# Altium schematic symbol library AVT5805_DF.SchLib: 8 symbols
Pins are listed as number, name and electrical type; pins without a type are passive.

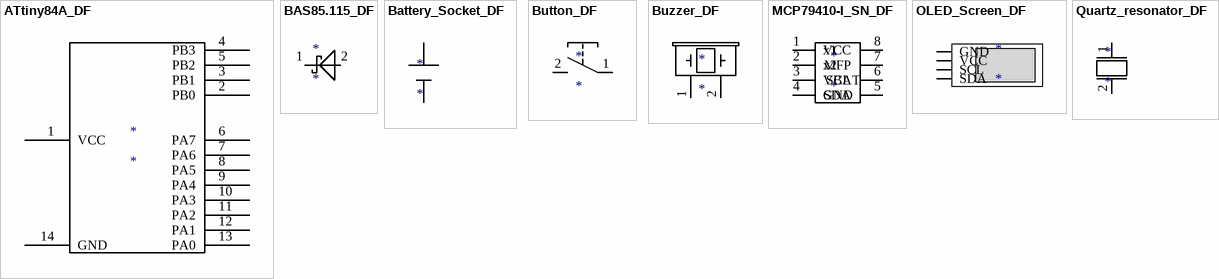
[diagram p0: symbols ATtiny84A_DF to Quartz_resonator_DF]

## ATtiny84A_DF
designator *
footprint SOIC14 (Footprint not found)
pins: 1 VCC, 2 PB0, 3 PB1, 4 PB3, 5 PB2, 6 PA7, 7 PA6, 8 PA5, 9 PA4, 10 PA3, 11 PA2, 12 PA1, 13 PA0, 14 GND

## BAS85.115_DF
designator *
footprint MINIMELF (Footprint not found)
pins: 1, 2

## Battery_Socket_DF
designator *
footprint DS1092 (Footprint not found)
pins: 1 VCC, 2 GND

## Button_DF
designator *
footprint DTSM31NB (Footprint not found)
pins: 1, 2

## Buzzer_DF
designator *
footprint LPT9018BS (Footprint not found)
pins: 1, 2

## MCP79410-I_SN_DF
designator *
footprint SO08 (Footprint not found)
pins: 1 x1, 2 x2, 3 VBAT, 4 GND, 5 SDA, 6 SCL, 7 MFP, 8 VCC

## OLED_Screen_DF
designator *
footprint SSD1306
pins: 1 GND, 2 VCC, 3 SDA, 4 SCL

## Quartz_resonator_DF
designator *
footprint DT-38
pins: 1, 2